# Altium integrated library TK190U65Z,RQ.IntLib: 1 symbol
Pins are listed as number, name and electrical type; pins without a type are passive.

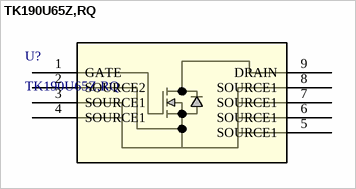
[diagram p0: symbol TK190U65Z,RQ]

## TK190U65Z,RQ
designator U?
Description; Manufacturer_Name: Toshiba Electronic Devices & Storage Corp.; Copyright: Copyright (C) 2025 Ultra Librarian. All rights reserved.; Manufacturer_Part_Number: TK190U65Z,RQ; RefDes: RefDes; Type: Type
footprint TOLL_TOS
pins: 1 GATE, 2 SOURCE2, 3 SOURCE1, 4 SOURCE1, 5 SOURCE1, 6 SOURCE1, 7 SOURCE1, 8 SOURCE1, 9 DRAIN